# EAGLE library part WATTUINO_PRO_MINI (library wattuino)
Wattuino Pro Mini Arduino compatible module, available as 5V / 16MHz <http://www.watterott.com/en/Wattuino-pro-mini-5V-16MHz> and 3.3V / 8MHz <http://www.watterott.com/en/Wattuino-pro-mini-3V3-8MHz> versions from Watterott electronic <http://www.watterott.com>. Source: https://github.com/watterott/wattuino Features Atmel AVR ATmega328P @ 16MHz or 8MHz (external resonator) Compatible with Arduino Pro Mini LC filter on AVCC of the AVR microcontroller All pins of the AVR are available (also ADC6, ADC7) USB connection off board 5V or 3V3 voltage regulator Over current protected Note to the symbol: I declared the EXT_RST pin as I/O even it is an input only. Usually this pin is unused. Declared as input only, the ERC check would complain an unconnected input in this common case. This work is licensed under a Creative Commons Attribution-ShareAlike 3.0 Unported License <http://creativecommons.org/licenses/by-sa/3.0/>. Created by Jens Bachmann
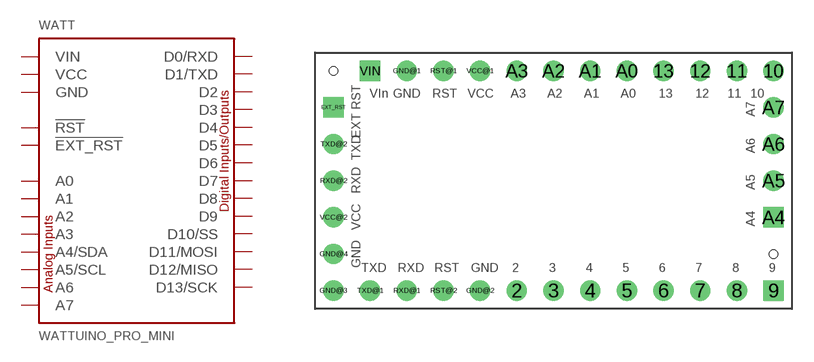
[diagram p0: symbol with the pads of WATTUINO_PRO_MINI; footprint WATTUINO_PRO_MINI]

Designator prefix WATT

## WATTUINO_PRO_MINI3.3ADV1.0 (CLOCK: 8 MHz; VCC: 3.3 V), WATTUINO_PRO_MINI5ADV1.0 (CLOCK: 16 MHz; VCC: 5 V)  [WATTUINO_PRO_MINI]
2  D2
3  D3
4  D4
5  D5
6  D6
7  D7
8  D8
9  D9
10  D10/SS
11  D11/MOSI
12  D12/MISO
13  D13/SCK
A0  A0  in
A1  A1  in
A2  A2  in
A3  A3  in
A4  A4/SDA  in
A5  A5/SCL  in
A6  A6  in
A7  A7  in
EXT_RST  !EXT_RST
GND@1  GND  pwr
RST@1  !RST  in
RXD@1  D0/RXD
TXD@1  D1/TXD
VCC@1  VCC  pwr
VIN  VIN  pwr

## Footprint WATTUINO_PRO_MINI (pad centres in mm)
Wattuino Pro Mini Source: https://github.com/watterott/wattuino/blob/master/img/wattuino_pro_mini.jpg This work is licensed under a Creative Commons Attribution-ShareAlike 3.0 Unported License <http://creativecommons.org/licenses/by-sa/3.0/>. Created by Jens Bachmann
drill 0.9 round: 2 -2.54,-7.62; 3 0,-7.62; 4 2.54,-7.62; 5 5.08,-7.62; 6 7.62,-7.62; 7 10.16,-7.62; 8 12.7,-7.62; 10 15.24,7.62; 11 12.7,7.62; 12 10.16,7.62; 13 7.62,7.62; A0 5.08,7.62; A1 2.54,7.62; A2 0,7.62; A3 -2.54,7.62; A5 15.24,0; A6 15.24,2.54; A7 15.24,5.08; GND@1 -10.16,7.62; GND@2 -5.08,-7.62; GND@3 -15.24,-7.62; GND@4 -15.24,-5.08; RST@1 -7.62,7.62; RST@2 -7.62,-7.62; RXD@1 -10.16,-7.62; RXD@2 -15.24,0; TXD@1 -12.7,-7.62; TXD@2 -15.24,2.54; VCC@1 -5.08,7.62; VCC@2 -15.24,-2.54
drill 0.9 square: 9 15.24,-7.62; A4 15.24,-2.54; EXT_RST -15.24,5.08; VIN -12.7,7.62
hole 0.6 at -15.24,7.62
hole 0.6 at 15.24,-5.08